# Altium footprint library leds.PcbLib: 51 footprints (part 3 of 4)
Each footprint in its own frame and in the unit in brackets; x right, y up, seen from the top. Pads: shape width x height; smd on the part's side, far side on the other; paste and mask are expansions set on the pad; w line width, h text height; cw(c..) or ccw(c..) is an arc to the next point about the centre after c.
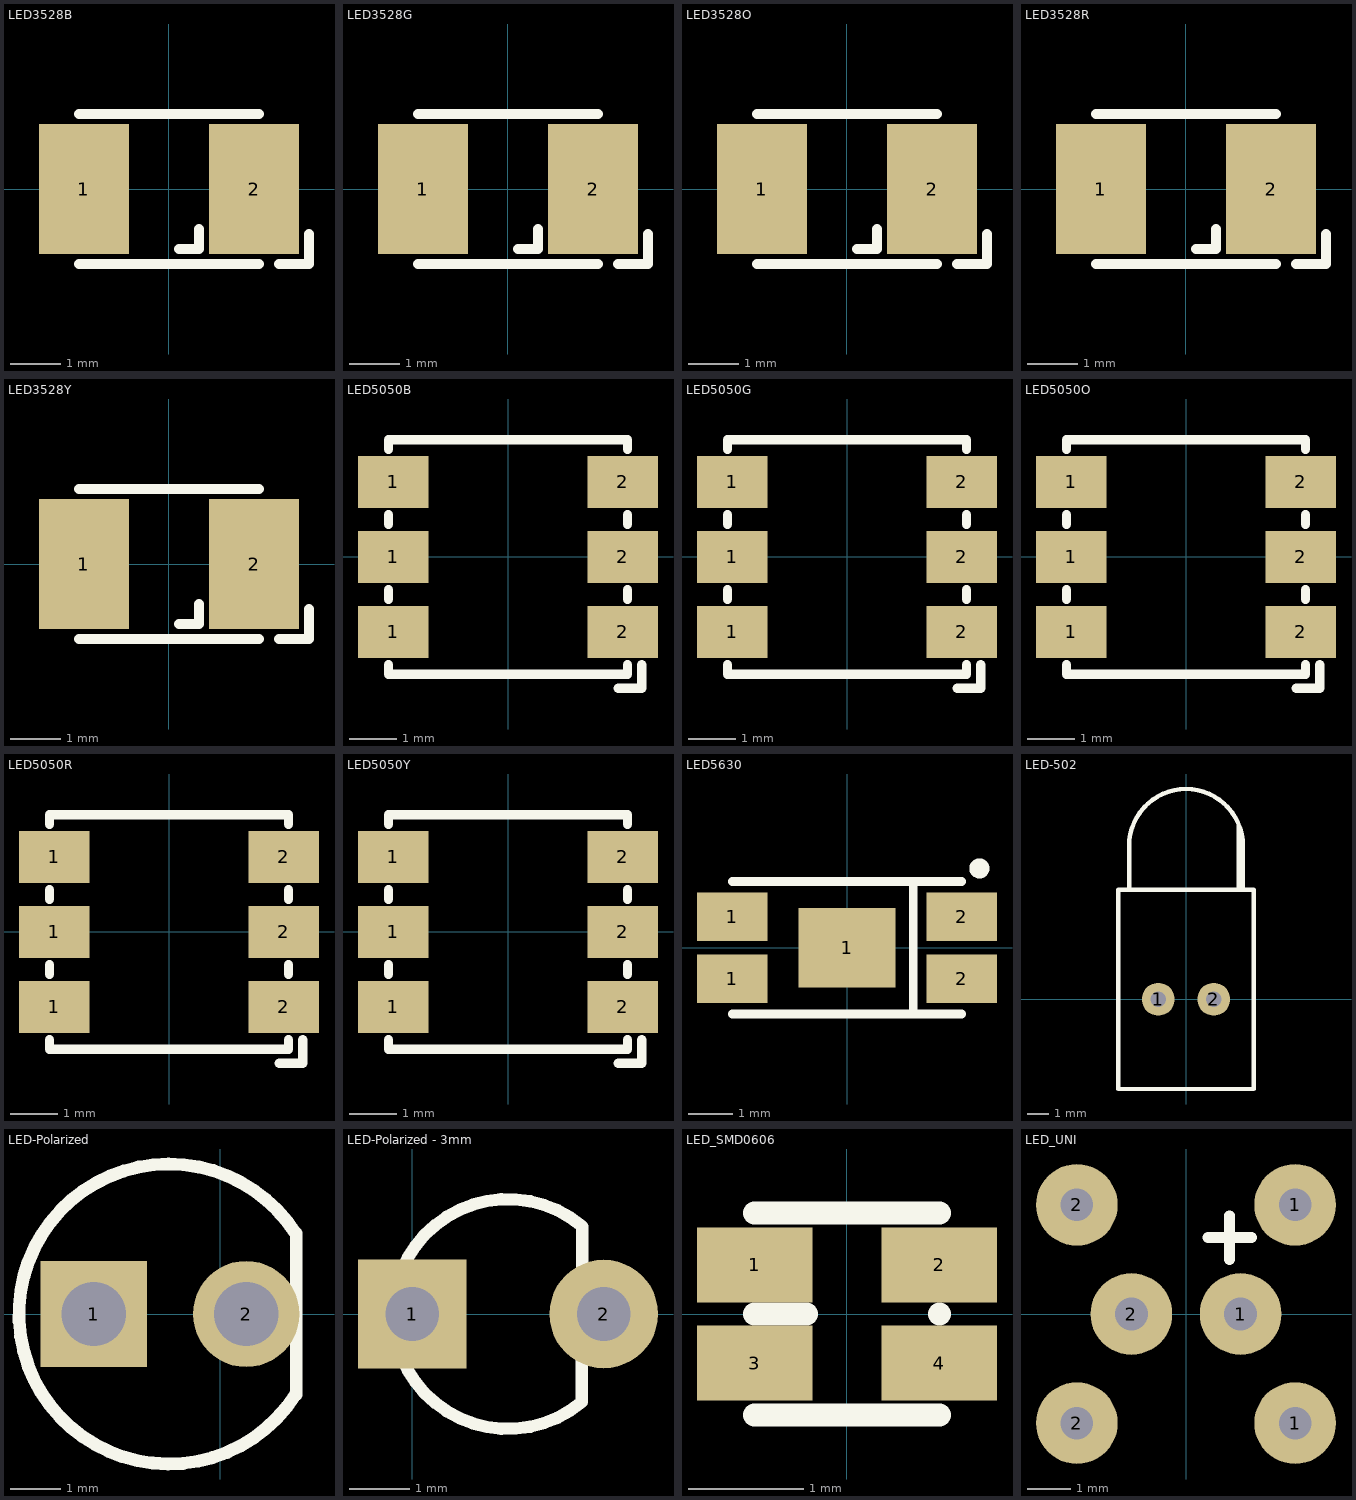
[diagram p2: the footprints below, top view; thin cyan lines are the x and y axes]

## LED3528B [mm]
pads (2):
  rect 1.8x2.6 smd: 1(-1.7,0) 2(1.7,0)
Top Overlay:
  lines w0.2: -1.8,-1.5 1.8,-1.5 ; -1.8,1.5 1.8,1.5 ; 0.2,-1.2 0.6,-1.2 0.6,-0.8 ; 2.2,-1.5 2.8,-1.5 2.8,-0.9
3D body "3528B.STEP": height 1.9, standoff 0, extent -1.75,-1.4 1.75,1.4

## LED3528G [mm]
pads (2):
  rect 1.8x2.6 smd: 1(-1.7,0) 2(1.7,0)
Top Overlay:
  lines w0.2: -1.8,-1.5 1.8,-1.5 ; -1.8,1.5 1.8,1.5 ; 0.2,-1.2 0.6,-1.2 0.6,-0.8 ; 2.2,-1.5 2.8,-1.5 2.8,-0.9
3D body "3528G.STEP": height 1.9, standoff 0, extent -1.75,-1.4 1.75,1.4

## LED3528O [mm]
pads (2):
  rect 1.8x2.6 smd: 1(-1.7,0) 2(1.7,0)
Top Overlay:
  lines w0.2: -1.8,-1.5 1.8,-1.5 ; -1.8,1.5 1.8,1.5 ; 0.2,-1.2 0.6,-1.2 0.6,-0.8 ; 2.2,-1.5 2.8,-1.5 2.8,-0.9
3D body "3528O.STEP": height 1.9, standoff 0, extent -1.75,-1.4 1.75,1.4

## LED3528R [mm]
pads (2):
  rect 1.8x2.6 smd: 1(-1.7,0) 2(1.7,0)
Top Overlay:
  lines w0.2: -1.8,-1.5 1.8,-1.5 ; -1.8,1.5 1.8,1.5 ; 0.2,-1.2 0.6,-1.2 0.6,-0.8 ; 2.2,-1.5 2.8,-1.5 2.8,-0.9
3D body "3528R.STEP": height 1.9, standoff 0, extent -1.75,-1.4 1.75,1.4

## LED3528Y [mm]
pads (2):
  rect 1.8x2.6 smd: 1(-1.7,0) 2(1.7,0)
Top Overlay:
  lines w0.2: -1.8,-1.5 1.8,-1.5 ; -1.8,1.5 1.8,1.5 ; 0.2,-1.2 0.6,-1.2 0.6,-0.8 ; 2.2,-1.5 2.8,-1.5 2.8,-0.9
3D body "3528Y.STEP": height 1.9, standoff 0, extent -1.75,-1.4 1.75,1.4

## LED5050B [mm]
pads (6):
  rect 1.5x1.1 smd: 1(-2.45,-1.6) 1(-2.45,0) 1(-2.45,1.6) 2(2.45,-1.6) 2(2.45,0) 2(2.45,1.6)
Top Overlay:
  lines w0.2: -2.55,-2.3 -2.55,-2.5 2.55,-2.5 2.55,-2.3 ; -2.55,-0.9 -2.55,-0.7 ; -2.55,0.7 -2.55,0.9 ; -2.55,2.3 -2.55,2.5 2.55,2.5 2.55,2.3 ; 0.65,-2.5 1.35,-2.5 ; 2.35,-2.8 2.85,-2.8 2.85,-2.7 2.85,-2.3 ; 2.55,-0.9 2.55,-0.7 ; 2.55,0.7 2.55,0.9
3D body "5050B.STEP": height 1.6, standoff 0, extent -2.65,-2.5 2.65,2.5

## LED5050G [mm]
pads (6):
  rect 1.5x1.1 smd: 1(-2.45,-1.6) 1(-2.45,0) 1(-2.45,1.6) 2(2.45,-1.6) 2(2.45,0) 2(2.45,1.6)
Top Overlay:
  lines w0.2: -2.55,-2.3 -2.55,-2.5 2.55,-2.5 2.55,-2.3 ; -2.55,-0.9 -2.55,-0.7 ; -2.55,0.7 -2.55,0.9 ; -2.55,2.3 -2.55,2.5 2.55,2.5 2.55,2.3 ; 0.65,-2.5 1.35,-2.5 ; 2.35,-2.8 2.85,-2.8 2.85,-2.7 2.85,-2.3 ; 2.55,-0.9 2.55,-0.7 ; 2.55,0.7 2.55,0.9
3D body "5050G.STEP": height 1.6, standoff 0, extent -2.65,-2.5 2.65,2.5

## LED5050O [mm]
pads (6):
  rect 1.5x1.1 smd: 1(-2.45,-1.6) 1(-2.45,0) 1(-2.45,1.6) 2(2.45,-1.6) 2(2.45,0) 2(2.45,1.6)
Top Overlay:
  lines w0.2: -2.55,-2.3 -2.55,-2.5 2.55,-2.5 2.55,-2.3 ; -2.55,-0.9 -2.55,-0.7 ; -2.55,0.7 -2.55,0.9 ; -2.55,2.3 -2.55,2.5 2.55,2.5 2.55,2.3 ; 0.65,-2.5 1.35,-2.5 ; 2.35,-2.8 2.85,-2.8 2.85,-2.7 2.85,-2.3 ; 2.55,-0.9 2.55,-0.7 ; 2.55,0.7 2.55,0.9
3D body "5050O.STEP": height 1.6, standoff 0, extent -2.65,-2.55 2.65,2.45

## LED5050R [mm]
pads (6):
  rect 1.5x1.1 smd: 1(-2.45,-1.6) 1(-2.45,0) 1(-2.45,1.6) 2(2.45,-1.6) 2(2.45,0) 2(2.45,1.6)
Top Overlay:
  lines w0.2: -2.55,-2.3 -2.55,-2.5 2.55,-2.5 2.55,-2.3 ; -2.55,-0.9 -2.55,-0.7 ; -2.55,0.7 -2.55,0.9 ; -2.55,2.3 -2.55,2.5 2.55,2.5 2.55,2.3 ; 0.65,-2.5 1.35,-2.5 ; 2.35,-2.8 2.85,-2.8 2.85,-2.7 2.85,-2.3 ; 2.55,-0.9 2.55,-0.7 ; 2.55,0.7 2.55,0.9
3D body "5050R.STEP": height 1.6, standoff 0, extent -2.65,-2.5 2.65,2.5

## LED5050Y [mm]
pads (6):
  rect 1.5x1.1 smd: 1(-2.45,-1.6) 1(-2.45,0) 1(-2.45,1.6) 2(2.45,-1.6) 2(2.45,0) 2(2.45,1.6)
Top Overlay:
  lines w0.2: -2.55,-2.3 -2.55,-2.5 2.55,-2.5 2.55,-2.3 ; -2.55,-0.9 -2.55,-0.7 ; -2.55,0.7 -2.55,0.9 ; -2.55,2.3 -2.55,2.5 2.55,2.5 2.55,2.3 ; 0.65,-2.5 1.35,-2.5 ; 2.35,-2.8 2.85,-2.8 2.85,-2.7 2.85,-2.3 ; 2.55,-0.9 2.55,-0.7 ; 2.55,0.7 2.55,0.9
3D body "User Library-smd_led_5050.step": height 1.6, standoff 0, extent -2.65,-2.5 2.65,2.5

## LED5630 [mm]
pads (5):
  rect 1.6x1.1 smd: 1(-2.6,-0.7) 1(-2.6,0.7) 2(2.6,-0.7) 2(2.6,0.7)
  rect 2.2x1.8 smd: 1(0,0)
Top Overlay:
  circle w0.254: c3,1.8 r0.1
  lines w0.2: -2.6,-1.5 2.6,-1.5 ; -2.6,1.5 2.6,1.5 ; 1.5,-1.5 1.5,1.5
3D body "User Library-LED_5630.step": height 0.86, standoff -0.04, extent -2.8,-1.5 2.8,1.5

## LED-502 [mm] "FIX&FASTEN"
pads (2):
  round 1.5 hole 0.7: 1(-1.27,0) 2(1.27,0)
Top Overlay:
  lines w0.2: -2.6,5.1 -2.6,7.1 ; -2.6,7 cw(c0,7) 2.6,7 2.6,5 ; 2.4,5 2.4,8 ; 2.5,5 2.5,7.7 ; -3.1,-4.1 3.1,-4.1 3.1,5 -3.1,5 -3.1,-4.1
3D body "User Library-LED RA RED VCC 5300H1.stp": height 6.17, standoff -2.49, extent -3.048,-4.078 3.048,10.4

## LED-Polarized [mm]
pads (2):
  rect 2.1x2.1 hole 1.27: 1(-2.5,0)
  round 2.1 hole 1.27: 2(0.508,0)
Top Overlay:
  lines w0.254: 1.48,-1.595 cw(c-1.016,0) 1.487,1.584 ; 1.497,-1.595 1.497,1.591
3D body "User Library-LED5ON-Red.step": height 8.5, standoff -5, extent -4,-3 1.5,3

## LED-Polarized - 3mm [mm]
pads (2):
  rect 1.8x1.8 hole 0.889: 1(0,0)
  round 1.8 hole 0.889: 2(3.175,0)
Top Overlay:
  lines w0.203: 2.812,-0.767 2.812,-1.459 cw(c1.587,0) 2.812,1.459 ; 2.819,0.737 2.819,1.447

## LED_SMD0606 [mm]
pads (4):
  rect 1x0.65 smd: 1(-0.8,0.425) 2(0.8,0.425) 3(-0.8,-0.425) 4(0.8,-0.425)
Top Overlay:
  lines w0.2: -0.8,-0.875 0.8,-0.875 ; -0.8,0 -0.35,0 ; -0.8,0.875 0.8,0.875 ; 0.8,0 0.8,0
3D body "User Library-APTF1616.SLDPRT": height 0.58, standoff -0.13, extent -0.8,-0.8 0.8,0.8

## LED_UNI [mm]
pads (6):
  round 1.9 hole 0.762: 1(1.27,0) 1(2.54,-2.54) 1(2.54,2.54) 2(-2.54,-2.54) 2(-2.54,2.54) 2(-1.27,0)
Top Overlay:
  lines w0.254: 0.508,1.778 1.524,1.778 ; 1.016,1.27 1.016,2.286